# Altium integrated library Resistors.IntLib: 4 symbols
Pins are listed as number, name and electrical type; pins without a type are passive.

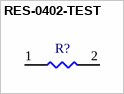
[diagram p0: symbol RES-0402-TEST]

## RES-0402-TEST
designator R?  (value not drawn)
Resistor library test 0402 package resistor
footprint RES0402 (Generic 0402 PCB Footprint)
pins: 1, 2


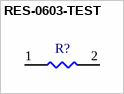
[diagram p1: symbol RES-0603-TEST]

## RES-0603-TEST
designator R?  (value not drawn)
Resistor library test 0603 package resistor
footprint RES0603 (Generic 0603)
pins: 1, 2


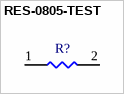
[diagram p2: symbol RES-0805-TEST]

## RES-0805-TEST
designator R?  (value not drawn)
Resistor library test 0805 package resistor
footprint RES0805 (Generic 0805 PCB Footprint)
pins: 1, 2


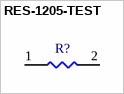
[diagram p3: symbol RES-1205-TEST]

## RES-1205-TEST
designator R?  (value not drawn)
Resistor library test 1205 package resistor
footprint RES1205 (Generic 1205 PCB Footprint)
pins: 1, 2